# Altium schematic symbol library SCH - DAC - TI DAC43701DSG.SCHLIB: 1 symbol
Pins are listed as number, name and electrical type; pins without a type are passive.

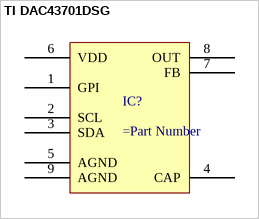
[diagram p0: symbol TI DAC43701DSG]

## TI DAC43701DSG
designator IC?
8 Bit Digital to Analog Converter 1 8-WSON (2x2)
pins: 1 GPI, 2 SCL, 3 SDA, 4 CAP, 5 AGND, 6 VDD, 7 FB, 8 OUT, 9 AGND